# Altium integrated library Analog.IntLib: 3 symbols
Pins are listed as number, name and electrical type; pins without a type are passive.

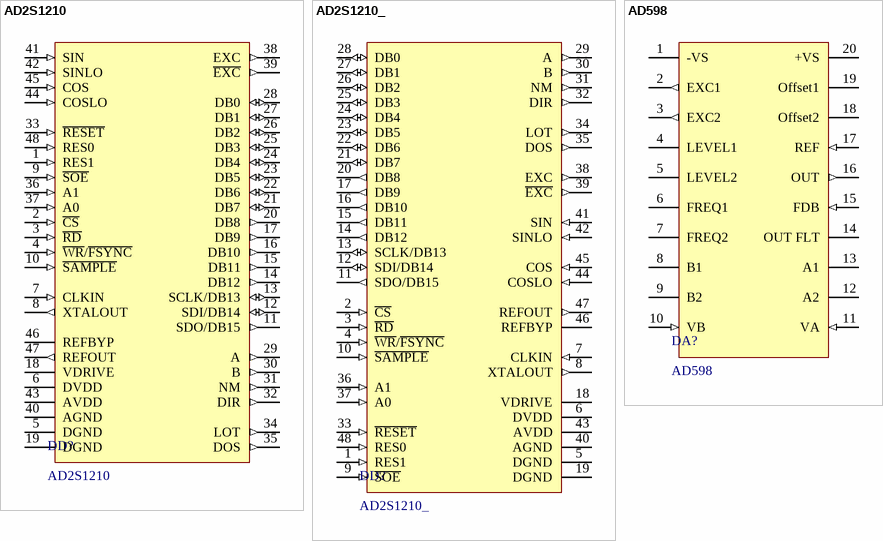
[diagram p0: symbols AD2S1210 to AD598]

## AD2S1210
designator DD?
Resolver to digital converter
footprint LQFP-48/e0.5 (LQFP-48; JEDEC MS-026BBC; Body 7.00x7.00x1.60mm; Pitch 0.5mm;)
pins: 1 RES1 (in) "Resolution Select 1. Logic input. RES1 in conjunction with RES0 allows the resolution of the AD2S1210 to be  programmed.", 2 ~{CS} (in) "Chip Select. Active low logic input. The device is enabled when CS is held low.", 3 ~{RD} (in) "Edge-Triggered Logic Input. When the SOE pin is high, this pin acts as a frame synchronization signal and output  enable for the parallel data outputs, DB15 to DB0. The output buffer is enabled when CS and RD are held low. When  the SOE pin is low, the R", 4 ~{WR}/~{FSYNC} (in) "When the SOE pin is high, this pin acts as a frame synchronization signal and input  enable for the parallel data inputs, DB7 to DB0. The input buffer is enabled when CS and WR/FSYNC are held low.  When the SOE pin is low, the WR/FSYNC pin acts as a fram", 5 DGND (power) "Digital Ground. These pins are ground reference points for digital circuitry on the AD2S1210. Refer all digital input", 6 DVDD (power) "Digital Supply Voltage, 4.75 V to 5.25 V.", 7 CLKIN (in) "Clock Input. A crystal or oscillator can be used at the CLKIN and XTALOUT pins to supply the required clock frequency of", 8 XTALOUT (out) "Crystal Output.  When using a crystal or oscillator to supply the clock frequency to the AD2S1210, apply the crystal", 9 ~{SOE} (in) "Serial Output Enable.  Logic input. This pin enables either the parallel or serial interface. The serial interface is selected", 10 ~{SAMPLE} (in) "Sample Result. Logic input. Data is transferred from the position and velocity integrators to the position and velocity", 11 SDO/DB15 (out) "Data Bit 15/Serial Data Output Bus", 12 SDI/DB14 (io) "Data Bit 14/Serial Data Input Bus. When the SOE pin is high, this pin acts as DB14, a three-state data output pin controlled  by CS and RD. When the SOE pin is low, this pin acts as SDI, the serial data input bus controlled by CS and WR/FSYNC. The  bits", 13 SCLK/DB13 (io) "Data Bit 13/Serial Clock. In parallel mode, this pin acts as DB13, a three-state data output pin controlled by CS and RD. In  serial mode, this pin acts as the serial clock input.", 14 DB12 (out) "Data Bit 12. Three-state data output pin controlled by CS and RD.", 15 DB11 (out) "Data Bit 11. Three-state data output pin controlled by CS and RD.", 16 DB10 (out) "Data Bit 10. Three-state data output pin controlled by CS and RD.", 17 DB9 (out) "Data Bit 9. Three-state data output pin controlled by CS and RD.", 18 VDRIVE (power) "Logic Power Supply Input. The voltage supplied at this pin determines at what voltage the interface operates.  Decouple this pin to DGND. The voltage range on this pin is 2.3 V to 5.25 V and may be different to the voltage range  at AVDD and DVDD but sho", 19 DGND (power) "Digital Ground. These pins are ground reference points for digital circuitry on the AD2S1210. Refer all digital input", 20 DB8 (out) "Data Bit 8. Three-state data output pin controlled by CS and RD.", 21 DB7 (io) "Data Bit 7. Three-state data input/output pins controlled by CS, RD, and WR/FSYNC.", 22 DB6 (io) "Data Bit 6. Three-state data input/output pins controlled by CS, RD, and WR/FSYNC.", 23 DB5 (io) "Data Bit 5. Three-state data input/output pins controlled by CS, RD, and WR/FSYNC.", 24 DB4 (io) "Data Bit 4. Three-state data input/output pins controlled by CS, RD, and WR/FSYNC.", 25 DB3 (io) "Data Bit 3. Three-state data input/output pins controlled by CS, RD, and WR/FSYNC.", 26 DB2 (io) "Data Bit 2. Three-state data input/output pins controlled by CS, RD, and WR/FSYNC.", 27 DB1 (io) "Data Bit 1. Three-state data input/output pins controlled by CS, RD, and WR/FSYNC.", 28 DB0 (io) "Data Bit 0. Three-state data input/output pins controlled by CS, RD, and WR/FSYNC.", 29 A (out) "Incremental Encoder Emulation Output A. Logic output. This output is free running and is valid if the resolver format  input signals applied to the converter are valid.", 30 B (out) "Incremental Encoder Emulation Output B. Logic output. This output is free running and is valid if the resolver format  input signals applied to the converter are valid.", 31 NM (out) "North Marker Incremental Encoder Emulation Output. Logic output. This output is free running and is valid if the  resolver format input signals applied to the converter are valid.", 32 DIR (out) "Direction. Logic output. This output is used in conjunction with the incremental encoder emulation outputs. The DIR  output indicates the direction of the input rotation and is high for increasing angular rotation.", 33 ~{RESET} (in) "Reset. Logic input. The AD2S1210 requires an external reset signal to hold the RESET input low until VDD is within the  specified operating range of 4.75 V to 5.25 V.", 34 LOT (out) "Loss of Tracking. Logic output. LOT is indicated by a logic low on the LOT pin and is not latched. Refer to the Loss of  Position Tracking Detection section.", 35 DOS (out) "Degradation of Signal. Logic output. Degradation of signal (DOS) is detected when either resolver input (sine or cosine)  exceeds the specified DOS sine/cosine threshold or when an amplitude mismatch occurs between the sine and  cosine input voltages. DO", 36 A1 (in) "Mode Select 1. Logic input. A1 in conjunction with A0 allows the mode of the AD2S1210 to be selected.", 37 A0 (in) "Mode Select 1. Logic input. A1 in conjunction with A0 allows the mode of the AD2S1210 to be selected.", 38 EXC (out) "Excitation Frequency. Analog output. An on-board oscillator provides the sinusoidal excitation signal (EXC) and its  complement signal (EXC) to the resolver.", 39 ~{EXC} (out) "Excitation Frequency. Analog output. An on-board oscillator provides the sinusoidal excitation signal (EXC) and its  complement signal (EXC) to the resolver.", 40 AGND (power) "Analog Ground. This pin is the ground reference points for analog circuitry on the AD2S1210. Refer all analog input  signals and any external reference signal to this AGND voltage. Connect the AGND pin to the AGND plane of a  system. The AGND and DGND vo", 41 SIN (in) "Positive Analog Input of Differential SIN/SINLO Pair. The input range is 2.3 V p-p to 4.0 V p-p.", 42 SINLO (in) "Negative Analog Input of Differential SIN/SINLO Pair. The input range is 2.3 V p-p to 4.0 V p-p.", 43 AVDD (power) "Analog Supply Voltage, 4.75 V to 5.25 V. This pin is the supply voltage for all analog circuitry on the AD2S1210. The  AVDD and DVDD voltages ideally should be at the same potential and must not be more than 0.3 V apart, even on a  transient basis.", 44 COSLO (in) "Negative Analog Input of Differential COS/COSLO Pair. The input range is 2.3 V p-p to 4.0 V p-p.", 45 COS (in) "Positive Analog Input of Differential COS/COSLO Pair. The input range is 2.3 V p-p to 4.0 V p-p.", 46 REFBYP "Reference Bypass. Connect reference decoupling capacitors at this pin. Typical recommended values are 10 uF and 0.01 uF.", 47 REFOUT (out) "Voltage Reference Output", 48 RES0 (in) "Resolution Select 0. Logic input. RES0 in conjunction with RES1 allows the resolution of the AD2S1210 to be  programmed."

## AD2S1210_
designator DD?
Resolver to digital converter
footprint LQFP-48/e0.5 (LQFP-48; JEDEC MS-026BBC; Body 7.00x7.00x1.60mm; Pitch 0.5mm;)
pins: 1 RES1 (in) "Resolution Select 1. Logic input. RES1 in conjunction with RES0 allows the resolution of the AD2S1210 to be  programmed.", 2 ~{CS} (in) "Chip Select. Active low logic input. The device is enabled when CS is held low.", 3 ~{RD} (in) "Edge-Triggered Logic Input. When the SOE pin is high, this pin acts as a frame synchronization signal and output  enable for the parallel data outputs, DB15 to DB0. The output buffer is enabled when CS and RD are held low. When  the SOE pin is low, the R", 4 ~{WR}/~{FSYNC} (in) "When the SOE pin is high, this pin acts as a frame synchronization signal and input  enable for the parallel data inputs, DB7 to DB0. The input buffer is enabled when CS and WR/FSYNC are held low.  When the SOE pin is low, the WR/FSYNC pin acts as a fram", 5 DGND (power) "Digital Ground. These pins are ground reference points for digital circuitry on the AD2S1210. Refer all digital input", 6 DVDD (power) "Digital Supply Voltage, 4.75 V to 5.25 V.", 7 CLKIN (in) "Clock Input. A crystal or oscillator can be used at the CLKIN and XTALOUT pins to supply the required clock frequency of", 8 XTALOUT (out) "Crystal Output.  When using a crystal or oscillator to supply the clock frequency to the AD2S1210, apply the crystal", 9 ~{SOE} (in) "Serial Output Enable.  Logic input. This pin enables either the parallel or serial interface. The serial interface is selected", 10 ~{SAMPLE} (in) "Sample Result. Logic input. Data is transferred from the position and velocity integrators to the position and velocity", 11 SDO/DB15 (out) "Data Bit 15/Serial Data Output Bus", 12 SDI/DB14 (io) "Data Bit 14/Serial Data Input Bus. When the SOE pin is high, this pin acts as DB14, a three-state data output pin controlled  by CS and RD. When the SOE pin is low, this pin acts as SDI, the serial data input bus controlled by CS and WR/FSYNC. The  bits", 13 SCLK/DB13 (io) "Data Bit 13/Serial Clock. In parallel mode, this pin acts as DB13, a three-state data output pin controlled by CS and RD. In  serial mode, this pin acts as the serial clock input.", 14 DB12 (out) "Data Bit 12. Three-state data output pin controlled by CS and RD.", 15 DB11 (out) "Data Bit 11. Three-state data output pin controlled by CS and RD.", 16 DB10 (out) "Data Bit 10. Three-state data output pin controlled by CS and RD.", 17 DB9 (out) "Data Bit 9. Three-state data output pin controlled by CS and RD.", 18 VDRIVE (power) "Logic Power Supply Input. The voltage supplied at this pin determines at what voltage the interface operates.  Decouple this pin to DGND. The voltage range on this pin is 2.3 V to 5.25 V and may be different to the voltage range  at AVDD and DVDD but sho", 19 DGND (power) "Digital Ground. These pins are ground reference points for digital circuitry on the AD2S1210. Refer all digital input", 20 DB8 (out) "Data Bit 8. Three-state data output pin controlled by CS and RD.", 21 DB7 (io) "Data Bit 7. Three-state data input/output pins controlled by CS, RD, and WR/FSYNC.", 22 DB6 (io) "Data Bit 6. Three-state data input/output pins controlled by CS, RD, and WR/FSYNC.", 23 DB5 (io) "Data Bit 5. Three-state data input/output pins controlled by CS, RD, and WR/FSYNC.", 24 DB4 (io) "Data Bit 4. Three-state data input/output pins controlled by CS, RD, and WR/FSYNC.", 25 DB3 (io) "Data Bit 3. Three-state data input/output pins controlled by CS, RD, and WR/FSYNC.", 26 DB2 (io) "Data Bit 2. Three-state data input/output pins controlled by CS, RD, and WR/FSYNC.", 27 DB1 (io) "Data Bit 1. Three-state data input/output pins controlled by CS, RD, and WR/FSYNC.", 28 DB0 (io) "Data Bit 0. Three-state data input/output pins controlled by CS, RD, and WR/FSYNC.", 29 A (out) "Incremental Encoder Emulation Output A. Logic output. This output is free running and is valid if the resolver format  input signals applied to the converter are valid.", 30 B (out) "Incremental Encoder Emulation Output B. Logic output. This output is free running and is valid if the resolver format  input signals applied to the converter are valid.", 31 NM (out) "North Marker Incremental Encoder Emulation Output. Logic output. This output is free running and is valid if the  resolver format input signals applied to the converter are valid.", 32 DIR (out) "Direction. Logic output. This output is used in conjunction with the incremental encoder emulation outputs. The DIR  output indicates the direction of the input rotation and is high for increasing angular rotation.", 33 ~{RESET} (in) "Reset. Logic input. The AD2S1210 requires an external reset signal to hold the RESET input low until VDD is within the  specified operating range of 4.75 V to 5.25 V.", 34 LOT (out) "Loss of Tracking. Logic output. LOT is indicated by a logic low on the LOT pin and is not latched. Refer to the Loss of  Position Tracking Detection section.", 35 DOS (out) "Degradation of Signal. Logic output. Degradation of signal (DOS) is detected when either resolver input (sine or cosine)  exceeds the specified DOS sine/cosine threshold or when an amplitude mismatch occurs between the sine and  cosine input voltages. DO", 36 A1 (in) "Mode Select 1. Logic input. A1 in conjunction with A0 allows the mode of the AD2S1210 to be selected.", 37 A0 (in) "Mode Select 1. Logic input. A1 in conjunction with A0 allows the mode of the AD2S1210 to be selected.", 38 EXC (out) "Excitation Frequency. Analog output. An on-board oscillator provides the sinusoidal excitation signal (EXC) and its  complement signal (EXC) to the resolver.", 39 ~{EXC} (out) "Excitation Frequency. Analog output. An on-board oscillator provides the sinusoidal excitation signal (EXC) and its  complement signal (EXC) to the resolver.", 40 AGND (power) "Analog Ground. This pin is the ground reference points for analog circuitry on the AD2S1210. Refer all analog input  signals and any external reference signal to this AGND voltage. Connect the AGND pin to the AGND plane of a  system. The AGND and DGND vo", 41 SIN (in) "Positive Analog Input of Differential SIN/SINLO Pair. The input range is 2.3 V p-p to 4.0 V p-p.", 42 SINLO (in) "Negative Analog Input of Differential SIN/SINLO Pair. The input range is 2.3 V p-p to 4.0 V p-p.", 43 AVDD (power) "Analog Supply Voltage, 4.75 V to 5.25 V. This pin is the supply voltage for all analog circuitry on the AD2S1210. The  AVDD and DVDD voltages ideally should be at the same potential and must not be more than 0.3 V apart, even on a  transient basis.", 44 COSLO (in) "Negative Analog Input of Differential COS/COSLO Pair. The input range is 2.3 V p-p to 4.0 V p-p.", 45 COS (in) "Positive Analog Input of Differential COS/COSLO Pair. The input range is 2.3 V p-p to 4.0 V p-p.", 46 REFBYP "Reference Bypass. Connect reference decoupling capacitors at this pin. Typical recommended values are 10 uF and 0.01 uF.", 47 REFOUT (out) "Voltage Reference Output", 48 RES0 (in) "Resolution Select 0. Logic input. RES0 in conjunction with RES1 allows the resolution of the AD2S1210 to be  programmed."

## AD598
designator DA?
LVDT signal conditioner
footprint WSOIC20 (Wide SOIC 20)
pins: 1 -VS (power), 2 EXC1 (out), 3 EXC2 (out), 4 LEVEL1, 5 LEVEL2, 6 FREQ1, 7 FREQ2, 8 B1 "B1 Filter", 9 B2 "B2 Filter", 10 VB (in), 11 VA (in), 12 A2 "A2 Flter", 13 A1 "A1 Filter", 14 OUT FLT (oc) "Output filter", 15 FDB (in) "Feedback", 16 OUT (out) "Signal output", 17 REF (in) "Signal reference", 18 Offset2 "Offset 2", 19 Offset1 "Offset 1", 20 +VS (power)